# Altium schematic symbol library RC0603FR-0790K9L.SchLib: 2 symbols
Pins are listed as number, name and electrical type; pins without a type are passive.

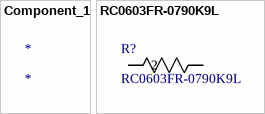
[diagram p0: symbols Component_1 to RC0603FR-0790K9L]

## Component_1
designator *

## RC0603FR-0790K9L
designator R?
No Description Available; Mfr_Name: Yageo; Copyright: Copyright (C) 2022 Ultra Librarian. All rights reserved.; Manufacturer_Part_Number: RC0603FR-0790K9L; RefDes: RefDes; Type: DEV
footprint RC0603N_YAG
pins: 1, 2